# Altium footprint library BATTERIJ_COMPARATOR.PcbLib: 1 footprints
Each footprint in its own frame and in the unit in brackets; x right, y up, seen from the top. Pads: shape width x height; smd on the part's side, far side on the other; paste and mask are expansions set on the pad; w line width, h text height; cw(c..) or ccw(c..) is an arc to the next point about the centre after c.
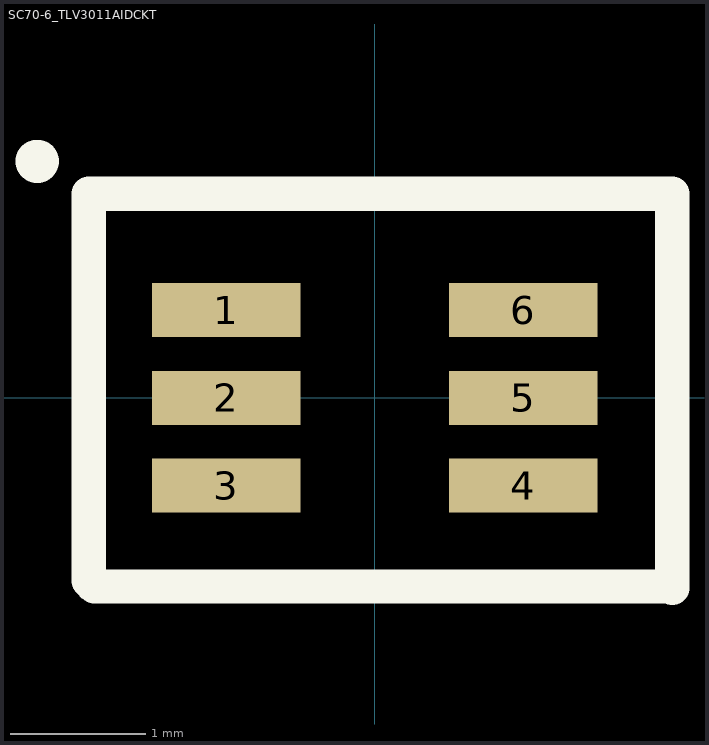
[diagram p0: the footprint, top view; thin cyan lines are the x and y axes]

## SC70-6_TLV3011AIDCKT [mm] "Comparator, Nanopower, Open-Drain, 1.242V Ref, 1.8V-5.5V"
pads (6):
  rect 1.1x0.4 smd: 1(-1.1,0.65) 2(-1.1,0) 3(-1.1,-0.65) 4(1.1,-0.65) 5(1.1,0) 6(1.1,0.65)
Top Overlay:
  circle w0.3: c-2.502,1.752 r0.01
  lines w0.254: -2.121,-1.354 -2.077,-1.397 1.361,-1.397 2.192,-1.397 2.202,-1.407 2.202,-0.335 2.202,0.459 2.202,1.514 -2.121,1.514 -2.121,-1.354
3D body "TLV3011AIDCKTG4.STEP": height 1.1, standoff 0, extent -1.109,-0.985 0.991,1.015